# Altium schematic symbol library OAmp.SchLib: 1 symbol
Pins are listed as number, name and electrical type; pins without a type are passive.

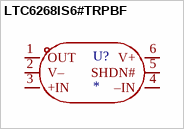
[diagram p0: symbol LTC6268IS6#TRPBF]

## LTC6268IS6#TRPBF
designator U?
footprint TSOT-23-6_L2.9-W1.6-P0.95-LS2.8-BL
pins: 1 OUT, 2 V–, 3 +IN, 4 –IN, 5 SHDN#, 6 V+